# EAGLE library part POT_CLAROSTAT_585 (library wheat)
POT, DUAL, CLAROSTAT 585
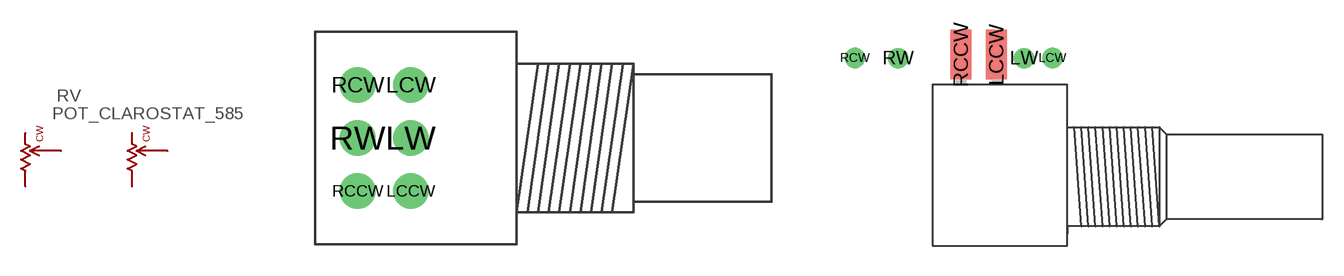
[diagram p62: symbol with the pads of POT_CLAROSTAT_585; footprints POT_CLAROSTAT_585, POT_CLAROSTAT_585_SIDE]

Designator prefix RV

## POT_CLAROSTAT_585  [POT_CLAROSTAT_585]
LCCW  CCW1  pas
LCW  CW1  pas
LW  W1  pas
RCCW  CCW2  pas
RCW  CW2  pas
RW  W2  pas

## POT_CLAROSTAT_585_SIDE  [POT_CLAROSTAT_585_SIDE]
Pads as for POT_CLAROSTAT_585

## POT_CLAROSTAT_585_W  [POT_CLAROSTAT_WIRES]
Pads as for POT_CLAROSTAT_585

## Footprint POT_CLAROSTAT_585 (pad centres in mm)
POT, DUAL, CLAROSTAT 585
drill 1.016 pad 1.676: LCCW -5,-2.5; LCW -5,2.5; LW -5,0; RCCW -7.5,-2.5; RCW -7.5,2.5; RW -7.5,0

## Footprint POT_CLAROSTAT_585_SIDE (pad centres in mm)
POT, CLAROSTAT 585 DUAL, ON SIDE
smd 1.5 x 3.5: LCCW -5,8.627; RCCW -7.5,8.627
drill 0.813 pad 1.422: LCW -1.038,8.386; LW -3.044,8.375; RCW -14.979,8.385; RW -11.93,8.375

## Footprint POT_CLAROSTAT_WIRES (pad centres in mm)
Clarostat 585 pot, on side, connected with wires
drill 0.813 pad 1.422: LCCW -12.7,8.255; LCW -17.78,8.255; LW -15.24,8.255; RCCW -12.7,5.715; RCW -17.78,5.715; RW -15.24,5.715